# Altium footprint library QFN25P50_450X350X80L42X24T310X210N.PcbLib: 1 footprints
Each footprint in its own frame and in the unit in brackets; x right, y up, seen from the top. Pads: shape width x height; smd on the part's side, far side on the other; paste and mask are expansions set on the pad; w line width, h text height; cw(c..) or ccw(c..) is an arc to the next point about the centre after c.
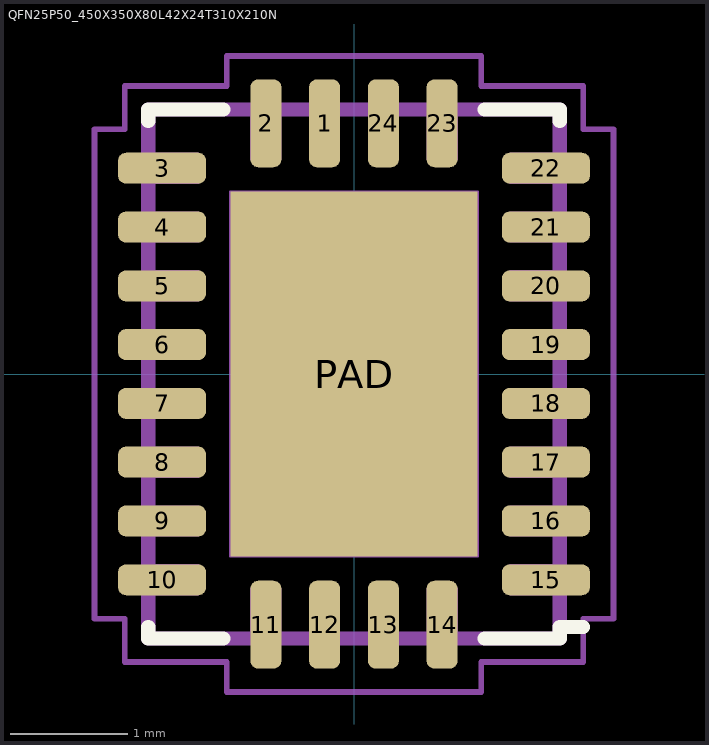
[diagram p0: the footprint, top view; thin cyan lines are the x and y axes]

## QFN25P50_450X350X80L42X24T310X210N [mm] "Quad Flat No-Lead (QFN) with Thermal Tab, 0.50 mm pitch;  rect., 8 pin X 4 pin, 4.50 mm L X 3.50 mm W X 0.80 mm H Body"
height 0.8
pads (25):
  rrect50% 0.264x0.748 smd: 1(-0.25,2.132) 2(-0.75,2.132) 11(-0.75,-2.132) 12(-0.25,-2.132) 13(0.25,-2.132) 14(0.75,-2.132) 23(0.75,2.132) 24(0.25,2.132)
  rrect50% 0.748x0.264 smd: 3(-1.632,1.75) 4(-1.632,1.25) 5(-1.632,0.75) 6(-1.632,0.25) 7(-1.632,-0.25) 8(-1.632,-0.75) 9(-1.632,-1.25) 10(-1.632,-1.75) 15(1.632,-1.75) 16(1.632,-1.25) 17(1.632,-0.75) 18(1.632,-0.25) 19(1.632,0.25) 20(1.632,0.75) 21(1.632,1.25) 22(1.632,1.75)
  rect 2.1x3.1 smd paste-3.1: PAD(0,0)
Top Overlay:
  lines w0.12: -1.75,-2.15 -1.75,-2.25 -1.112,-2.25 ; -1.75,2.15 -1.75,2.25 -1.112,2.25 ; 1.112,-2.25 1.75,-2.25 1.75,-2.15 1.946,-2.15 ; 1.112,2.25 1.75,2.25 1.75,2.15
Top Paste:
  region: 0.896,1.396 0.896,0.154 0.154,0.154 0.154,1.396
  region: -0.154,1.396 -0.154,0.154 -0.896,0.154 -0.896,1.396
  region: 0.896,-0.154 0.896,-1.396 0.154,-1.396 0.154,-0.154
  region: -0.154,-0.154 -0.154,-1.396 -0.896,-1.396 -0.896,-0.154
Mechanical 3:
  lines w0.12: -1.75,-2.25 -1.75,2.25 1.75,2.25 1.75,-2.25 -1.75,-2.25
Mechanical 5:
  lines w0.025: -1.75,-2.25 -1.75,2.25 1.75,2.25 1.75,-2.25 -1.75,-2.25 ; -1.75,-1.87 -1.325,-1.87 -1.325,-1.63 -1.75,-1.63 -1.75,-1.87 ; -1.75,-1.37 -1.325,-1.37 -1.325,-1.13 -1.75,-1.13 -1.75,-1.37 ; -1.75,-0.87 -1.325,-0.87 -1.325,-0.63 -1.75,-0.63 -1.75,-0.87 ; -1.75,-0.37 -1.325,-0.37 -1.325,-0.13 -1.75,-0.13 -1.75,-0.37 ; -1.75,0.13 -1.325,0.13 -1.325,0.37 -1.75,0.37 -1.75,0.13 ; -1.75,0.63 -1.325,0.63 -1.325,0.87 -1.75,0.87 -1.75,0.63 ; -1.75,1.13 -1.325,1.13 -1.325,1.37 -1.75,1.37 -1.75,1.13 ; -1.75,1.63 -1.325,1.63 -1.325,1.87 -1.75,1.87 -1.75,1.63 ; -1.05,-1.55 1.05,-1.55 1.05,1.55 -1.05,1.55 -1.05,-1.55 ; -0.87,-2.25 -0.63,-2.25 -0.63,-1.824 -0.87,-1.824 -0.87,-2.25 ; -0.87,1.824 -0.63,1.824 -0.63,2.25 -0.87,2.25 -0.87,1.824 ; -0.37,-2.25 -0.13,-2.25 -0.13,-1.824 -0.37,-1.824 -0.37,-2.25 ; -0.37,1.824 -0.13,1.824 -0.13,2.25 -0.37,2.25 -0.37,1.824 ; 0.13,-2.25 0.37,-2.25 0.37,-1.824 0.13,-1.824 0.13,-2.25 ; 0.13,1.824 0.37,1.824 0.37,2.25 0.13,2.25 0.13,1.824 ; 0.63,-2.25 0.87,-2.25 0.87,-1.824 0.63,-1.824 0.63,-2.25 ; 0.63,1.824 0.87,1.824 0.87,2.25 0.63,2.25 0.63,1.824 ; 1.325,-1.87 1.325,-1.63 1.75,-1.63 1.75,-1.87 1.325,-1.87 ; 1.325,-1.37 1.325,-1.13 1.75,-1.13 1.75,-1.37 1.325,-1.37 ; 1.325,-0.87 1.325,-0.63 1.75,-0.63 1.75,-0.87 1.325,-0.87 ; 1.325,-0.37 1.325,-0.13 1.75,-0.13 1.75,-0.37 1.325,-0.37 ; 1.325,0.13 1.325,0.37 1.75,0.37 1.75,0.13 1.325,0.13 ; 1.325,0.63 1.325,0.87 1.75,0.87 1.75,0.63 1.325,0.63 ; 1.325,1.13 1.325,1.37 1.75,1.37 1.75,1.13 1.325,1.13 ; 1.325,1.63 1.325,1.87 1.75,1.87 1.75,1.63 1.325,1.63
Mechanical 7:
  circle w0.05: c0,0 r0.25
  lines w0.05: -0.35,0 0.35,0 ; 0,-0.35 0,0.35 ; -2.206,-2.082 -2.206,2.082 -1.95,2.082 -1.95,2.45 -1.082,2.45 -1.082,2.706 1.082,2.706 1.082,2.45 1.95,2.45 1.95,2.082 2.206,2.082 2.206,-2.082 1.95,-2.082 1.95,-2.45 1.082,-2.45 1.082,-2.706 -1.082,-2.706 -1.082,-2.45 -1.95,-2.45 -1.95,-2.082 -2.206,-2.082
Mechanical 9:
  text "'.Designator'" at -5.817,-0.144 h1.02
3D body: height 0.8, standoff 0, extent -2.206,-2.706 2.206,2.706
3D body "MLP24_4P5X3P5_ONS.step": height 0.83, standoff 0.01, extent -1.753,-2.248 1.753,2.248